# Altium schematic symbol library Bitcoiner_EB_Project_V1I1.SchLib: 70 symbols (part 1 of 3)
Pins are listed as number, name and electrical type; pins without a type are passive.

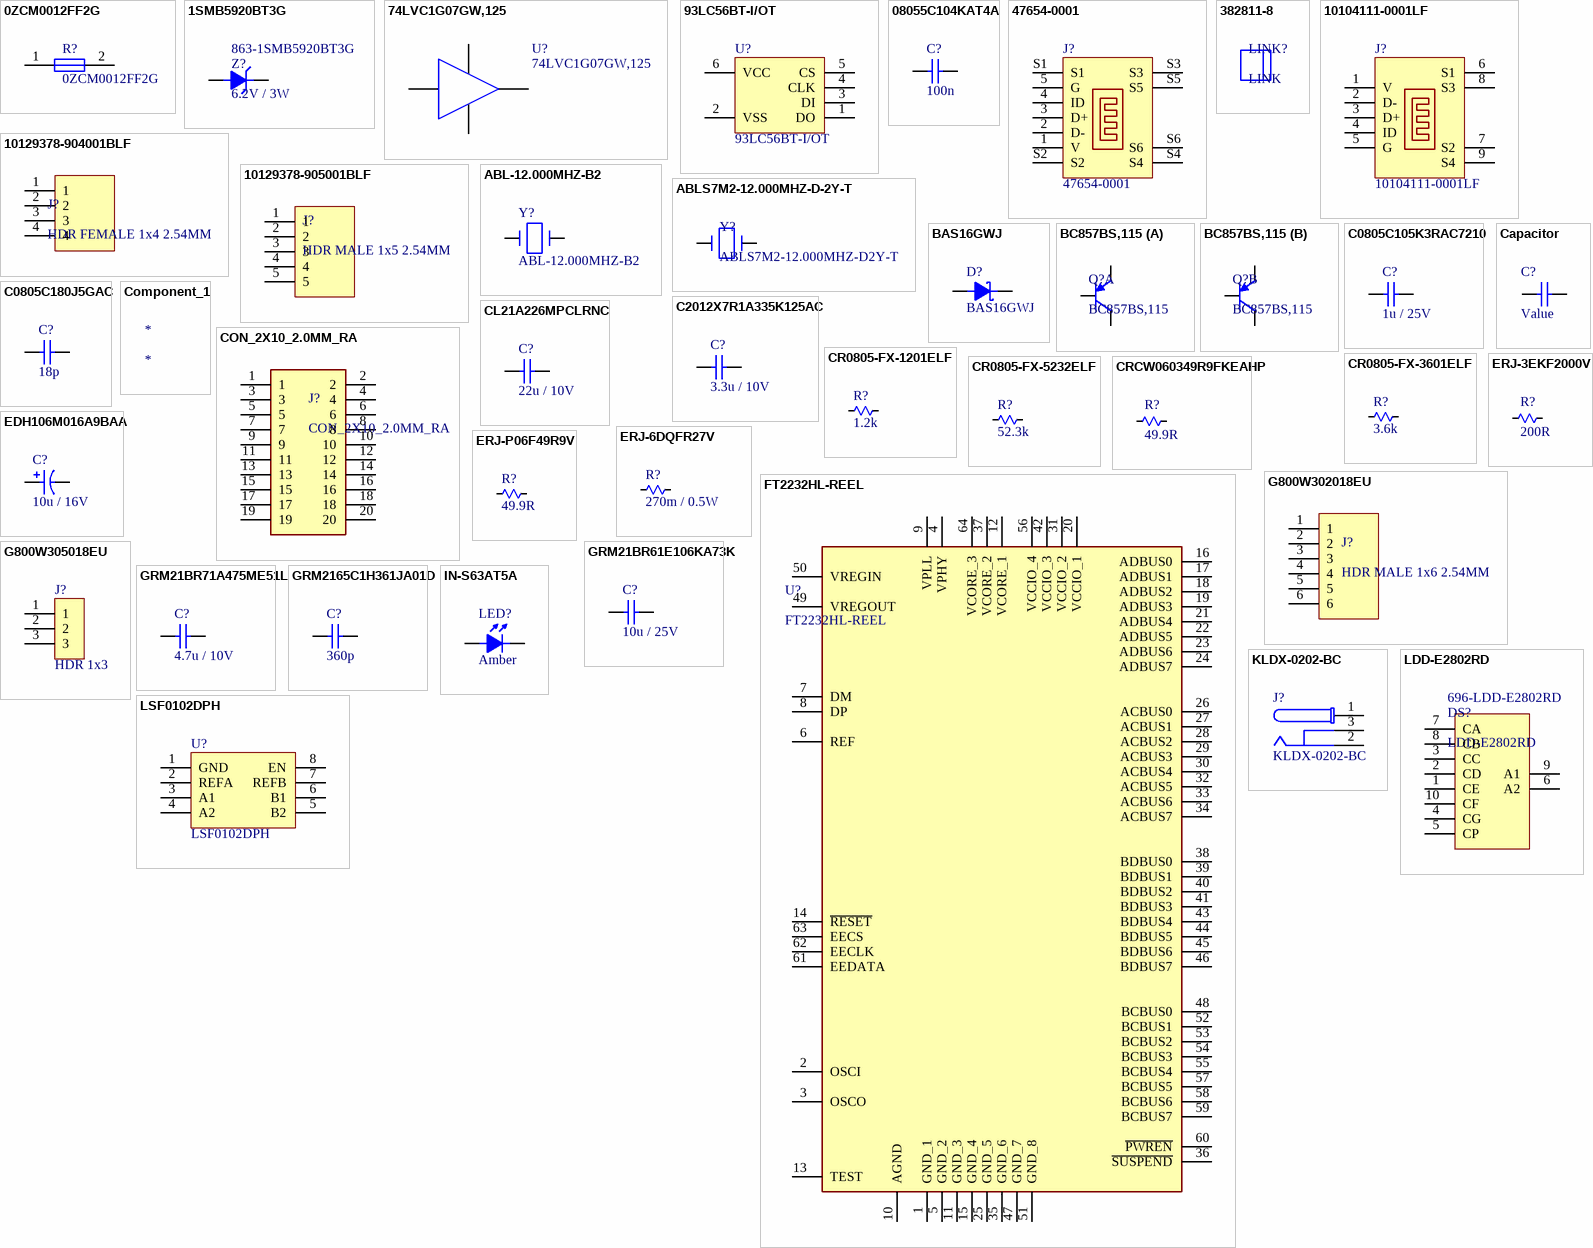
[diagram p0: symbols 0ZCM0012FF2G to LSF0102DPH]

## 0ZCM0012FF2G
designator R?
PTC RESET FUSE 9V 120MA 0603; Manufacturer: Bel; Max Current Rating: 40A; Trip Current: 300mA; Time to Trip: 0.1s; Supplier 1: Mouser; Manufacturer Part Number: 0ZCM0012FF2G; RoHS: Yes; Category: PTC Resettable Fuses; Stock 1: 3742; Pricing 1: 1=0.13000, 10=0.11800, 50=0.11800, 100=0.08400, 1000=0.06100, 10000=0.05000 (USD); Case/Package: 0603; Case Code (Metric): 1608; Case Code (Imperial): 0603; Package Quantity: 1; Packaging: Tape and Reel; Hold Current: 120mA; RoHS Compliant: Yes; ComponentLink1URL: https://datasheet.ciiva.com/18550/0zcm-18550763.pdf?src-supplier=Digi-Key; ComponentLink1Description: https://datasheet.ciiva.com/18550/0zcm-18550763.pdf?src-supplier=Digi-Key; ComponentLink2URL: https://datasheet.ciiva.com/18550/0zcm-18550764.pdf?src-supplier=Digi-Key; ComponentLink2Description: https://datasheet.ciiva.com/18550/0zcm-18550764.pdf?src-supplier=Digi-Key; ComponentLink3URL: https://datasheet.ciiva.com/18550/0zcm-18550765.pdf?src-supplier=Digi-Key; ComponentLink3Description: https://datasheet.ciiva.com/18550/0zcm-18550765.pdf?src-supplier=Digi-Key; Supplier Part Number 1: 530-0ZCM0012FF2G
footprint 0ZCM0012FF2G
pins: 1, 2

## 1SMB5920BT3G
designator Z?, comment 6.2V / 3W  Supplier Part Number 1: 863-1SMB5920BT3G
Diode Zener Single 6.2V 5% 550mW 2-Pin SMB T/R; Manufacturer: ON Semiconductor; Manufacturer Part Number: 1SMB5920BT3G; Impedance: 2R; Max Reverse Leakage Current: 5uA; Breakdown Voltage: 6.51V; Forward Voltage: 1.5V; Zener Current: 241mA; Test Current: 60.5mA; ESD Protection: Yes; Supplier 1: Mouser; RoHS: Yes; Category: Zener Diodes; Stock 1: 179; Pricing 1: 1=0.45000, 10=0.35300, 50=0.35300, 100=0.21200, 1000=0.13400, 10000=0.11700 (USD); Case/Package: SMB; Number of Pins: 2; Material: Plastic; Contact Plating: Tin,Matte; Min Operating Temperature: -65°C; Max Operating Temperature: 150°C; Packaging: Tape and Reel; Max Power Dissipation: 3W; Tolerance: 5%; Zener Voltage: 6.2V; Package Quantity: 1; Voltage Tolerance: 5%; Element Configuration: Single; Voltage Rating (DC): 6.2V; Power Rating: 3W; Power Dissipation: 550mW; Termination: SMD/SMT; Working Voltage: 6.2V; Max Reverse Current: 5uA; Length: 4.32mm; Width: 3.56mm; Height: 2.13mm; Radiation Hardening: No; Lead Free: Lead Free; Halogen Free: Halogen Free; RoHS Compliant: Yes; REACH SVHC: No SVHC; ComponentLink1URL: https://datasheet.ciiva.com/30513/1308357-30513968.pdf?src-supplier=Jameco; ComponentLink1Description: https://datasheet.ciiva.com/30513/1308357-30513968.pdf?src-supplier=Jameco; ComponentLink2URL: https://datasheet.ciiva.com/1182/1smb5913bt3-d-1182660.pdf?src-supplier=Element14; ComponentLink2Description: https://datasheet.ciiva.com/1182/1smb5913bt3-d-1182660.pdf?src-supplier=Element14; ComponentLink3URL: https://datasheet.ciiva.com/1205/1smb5913bt3-d-1205140.pdf?src-supplier=Farnell; ComponentLink3Description: https://datasheet.ciiva.com/1205/1smb5913bt3-d-1205140.pdf?src-supplier=Farnell; ComponentLink4URL: https://datasheet.ciiva.com/1205/1smb5913bt3-d-1205141.pdf?src-supplier=Farnell; ComponentLink4Description: https://datasheet.ciiva.com/1205/1smb5913bt3-d-1205141.pdf?src-supplier=Farnell; ComponentLink5URL: https://datasheet.ciiva.com/895/1smb5913bt3-d-895191.pdf?src-supplier=Digi-Key; ComponentLink5Description: https://datasheet.ciiva.com/895/1smb5913bt3-d-895191.pdf?src-supplier=Digi-Key; ComponentLink6URL: https://datasheet.ciiva.com/895/1smb5913bt3-d-895192.pdf?src-supplier=Digi-Key; ComponentLink6Description: https://datasheet.ciiva.com/895/1smb5913bt3-d-895192.pdf?src-supplier=Digi-Key; ComponentLink7URL: https://datasheet.ciiva.com/8345/1smb5913bt3-d-8345928.pdf?src-supplier=Avnet; ComponentLink7Description: https://datasheet.ciiva.com/8345/1smb5913bt3-d-8345928.pdf?src-supplier=Avnet; ComponentLink8URL: https://datasheet.ciiva.com/8346/1smb5913bt3-d-8346619.pdf?src-supplier=Avnet; ComponentLink8Description: https://datasheet.ciiva.com/8346/1smb5913bt3-d-8346619.pdf?src-supplier=Avnet; ComponentLink9URL: https://datasheet.ciiva.com/26092/1smb5913bt3-d-26092478.pdf?src-supplier=Avnet+Europe; ComponentLink9Description: https://datasheet.ciiva.com/26092/1smb5913bt3-d-26092478.pdf?src-supplier=Avnet+Europe; ComponentLink10URL: https://datasheet.ciiva.com/1182/1smb5913bt3-d-1182659.pdf?src-supplier=Element14; ComponentLink10Description: https://datasheet.ciiva.com/1182/1smb5913bt3-d-1182659.pdf?src-supplier=Element14; ComponentLink11URL: https://datasheet.ciiva.com/895/1smb5913bt3-d-895193.pdf?src-supplier=Digi-Key; ComponentLink11Description: https://datasheet.ciiva.com/895/1smb5913bt3-d-895193.pdf?src-supplier=Digi-Key; ComponentLink12URL: https://datasheet.ciiva.com/8026/1smb5913bt3-d-8026937.pdf?src-supplier=Element14; ComponentLink12Description: https://datasheet.ciiva.com/8026/1smb5913bt3-d-8026937.pdf?src-supplier=Element14; ComponentLink13URL: https://datasheet.ciiva.com/14560/70099466-14560474.pdf?src-supplier=Allied+Electronics; ComponentLink13Description: https://datasheet.ciiva.com/14560/70099466-14560474.pdf?src-supplier=Allied+Electronics; ComponentLink14URL: https://datasheet.ciiva.com/16202/1smb5913bt3-d-16202955.pdf?src-supplier=Future+Electronics; ComponentLink14Description: https://datasheet.ciiva.com/16202/1smb5913bt3-d-16202955.pdf?src-supplier=Future+Electronics; ComponentLink15URL: https://datasheet.ciiva.com/16472/1smb5913bt3-d-16472781.pdf?src-supplier=Avnet+Asia; ComponentLink15Description: https://datasheet.ciiva.com/16472/1smb5913bt3-d-16472781.pdf?src-supplier=Avnet+Asia
footprint 1SMB5913BT3
pins: 1 Cathode, 2 Anode

## 74LVC1G07GW,125
designator U?
NEXPERIA - 74LVC1G07GW,125 - BUFFER, NON-INVERTING, TSSOP-5; Supplier 1: Mouser; Manufacturer: Nexperia; Manufacturer Part Number: 74LVC1G07GW,125; RoHS: Yes; Category: Logic Gates; Stock 1: 3142; Pricing 1: 1=0.24000, 10=0.16400, 50=0.16400, 100=0.08100, 1000=0.04700, 10000=0.03600 (USD); RoHS Compliant: Yes; ComponentLink1URL: http://www.farnell.com/datasheets/2185287.pdf?src-supplier=Farnell; ComponentLink1Description: http://www.farnell.com/datasheets/2185287.pdf?src-supplier=Farnell; ComponentLink2URL: https://assets.nexperia.com/documents/data-sheet/74LVC1G07.pdf?src-supplier=Digi-Key; ComponentLink2Description: https://assets.nexperia.com/documents/data-sheet/74LVC1G07.pdf?src-supplier=Digi-Key; ComponentLink3URL: http://www.farnell.com/datasheets/2185287.pdf?src-supplier=Newark; ComponentLink3Description: http://www.farnell.com/datasheets/2185287.pdf?src-supplier=Newark; Supplier Part Number 1: 771-74LVC1G07GW-G
footprint SOT353-1
pins: 2, 3, 4, 5

## 93LC56BT-I/OT
designator U?
MICROCHIP - 93LC56BT-I/OT. - 2K, 128 X 16, SERIAL EE, IND ROHS COMPLIANT: YES; Density: 2Kb; Max Supply Voltage: 5.5V; Min Supply Voltage: 2.5V; Access Time: 250ns; Frequency: 2MHz; Nominal Supply Current: 2mA; Memory Type: EEPROM; Supplier 1: Mouser; Manufacturer: Microchip; Manufacturer Part Number: 93LC56BT-I/OT; RoHS: No; Category: EEPROM; Stock 1: 38253; Pricing 1: 1=0.25000, 10=0.24200, 50=0.23100, 100=0.22100, 1000=0.22100, 10000=0.22100 (USD); Mount: Surface Mount; Case/Package: SOT-23; Number of Pins: 6; Contact Plating: Tin,Matte; Min Operating Temperature: -40°C; Max Operating Temperature: 85°C; Packaging: Tape and Reel; Package Quantity: 3000; Interface: Serial; Memory Size: 2Kb; Max Frequency: 2MHz; Length: 3.1mm; Width: 1.8mm; Height: 1.3mm; Radiation Hardening: No; REACH SVHC: No SVHC; Lead Free: Lead Free; ComponentLink1URL: https://datasheet.ciiva.com/48496/jp013939-48496476.pdf?src-supplier=Avnet; ComponentLink1Description: https://datasheet.ciiva.com/48496/jp013939-48496476.pdf?src-supplier=Avnet; ComponentLink2URL: https://datasheet.ciiva.com/16216/filehandler-aspxddocname-en013939-16216574.pdf?src-supplier=Future+Electronics; ComponentLink2Description: https://datasheet.ciiva.com/16216/filehandler-aspxddocname-en013939-16216574.pdf?src-supplier=Future+Electronics; ComponentLink3URL: https://datasheet.ciiva.com/3185/jp013939-3185519.pdf?src-supplier=Avnet; ComponentLink3Description: https://datasheet.ciiva.com/3185/jp013939-3185519.pdf?src-supplier=Avnet; ComponentLink4URL: https://datasheet.ciiva.com/16622/jp013939-16622127.pdf?src-supplier=Avnet+Europe; ComponentLink4Description: https://datasheet.ciiva.com/16622/jp013939-16622127.pdf?src-supplier=Avnet+Europe; Supplier Part Number 1: 579-93LC56BT-I/OT
footprint SOT-23-6
pins: 1 DO, 2 VSS, 3 DI, 4 CLK, 5 CS, 6 VCC

## 08055C104KAT4A
designator C?, comment 100n
AVX - 08055C104KAT4A - Multilayer Ceramic Capacitor, 0.1 F, 10%, X7R, 50 V, 0805 [2012 Metric] RoHS Compliant: Yes; Manufacturer: Kyocera AVX; Capacitance: 100nF; Voltage Rating: 50V; Dissipation Factor: 2.5%; Supplier 1: Mouser; Manufacturer Part Number: 08055C104KAT4A; RoHS: Yes; Category: Ceramic Capacitors; Stock 1: 466031; Pricing 1: 1=0.10000, 10=0.04000, 50=0.04000, 100=0.03300, 1000=0.01900, 10000=0.01500 (USD); Mount: Surface Mount; Case/Package: 0805; Number of Pins: 2; Case Code (Imperial): 0805; Case Code (Metric): 2012; Dielectric Material: Ceramic; Min Operating Temperature: -55°C; Max Operating Temperature: 125°C; Tolerance: 10%; Dielectric: X7R; Packaging: Tape and Reel; Voltage Rating (DC): 50V; Package Quantity: 15000; Termination: SMD/SMT; Voltage: 50V; Construction: Flat; Length: 2.01mm; Width: 1.25mm; Height: 0.94mm; Depth: 1.25mm; Radiation Hardening: No; REACH SVHC: No SVHC; Lead Free: Lead Free; RoHS Compliant: Yes; ComponentLink1URL: https://datasheet.ciiva.com/2988/cx7r-2988016.pdf?src-supplier=Avnet; ComponentLink1Description: https://datasheet.ciiva.com/2988/cx7r-2988016.pdf?src-supplier=Avnet; ComponentLink2URL: https://datasheet.ciiva.com/28613/1679506-28613114.pdf?src-supplier=Element14; ComponentLink2Description: https://datasheet.ciiva.com/28613/1679506-28613114.pdf?src-supplier=Element14; ComponentLink3URL: https://datasheet.ciiva.com/5423/cx7r-218113-5423437.pdf?src-supplier=Mouser; ComponentLink3Description: https://datasheet.ciiva.com/5423/cx7r-218113-5423437.pdf?src-supplier=Mouser; ComponentLink4URL: https://datasheet.ciiva.com/16222/cx7r-16222253.pdf?src-supplier=Future+Electronics; ComponentLink4Description: https://datasheet.ciiva.com/16222/cx7r-16222253.pdf?src-supplier=Future+Electronics; ComponentLink5URL: https://datasheet.ciiva.com/22676/1679506-22676605.pdf?src-supplier=Element14; ComponentLink5Description: https://datasheet.ciiva.com/22676/1679506-22676605.pdf?src-supplier=Element14; ComponentLink6URL: https://datasheet.ciiva.com/2988/cx7r-2988015.pdf?src-supplier=Avnet; ComponentLink6Description: https://datasheet.ciiva.com/2988/cx7r-2988015.pdf?src-supplier=Avnet; Supplier Part Number 1: 581-08055C104KAT4A
footprint C0805
pins: 1, 2

## 47654-0001
designator J?
Conn Micro USB Type AB RCP 5 POS 0.65mm Solder RA SMD 5 Terminal 1 Port Embossed T/R; Manufacturer: Molex; Number of Terminals/Pins: 5; Max Voltage Rating (AC): 100V; Gender: Male; Connector Type: USB,Receptacle; Number of Ports: 1; Current Rating: 1.8A; Voltage Rating (AC): 30V; Number of Circuits: 13; USB Standard: USB 2.0; Glow Wire Compliant: Non-compliant; Supplier 1: Mouser; Manufacturer Part Number: 47654-0001; RoHS: Yes; Category: Headers and Wire Housings; Stock 1: 1931; Pricing 1: 1=0.75000, 10=0.61800, 50=0.61800, 100=0.51600, 1000=0.38700, 10000=0.33400 (USD); Mount: Surface Mount; Contact Material: Copper Alloy; Contact Plating: Gold; Housing Material: Thermoplastic; Color: Black; Min Operating Temperature: -20°C; Max Operating Temperature: 85°C; Packaging: Tape and Reel; Package Quantity: 7500; Number of Contacts: 5; Termination: Solder; Orientation: Right Angle; Number of Positions: 5; Number of Rows: 1; Series: 47654; Length: 10.13mm; Pitch: 0.65mm; Depth: 6.8mm; REACH SVHC: Unknown; RoHS Compliant: Yes; ComponentLink1URL: https://datasheet.ciiva.com/16143/molexconnectorpartnumber-47654-0001-16143187.pdf?src-supplier=Onlinecomponents.com; ComponentLink1Description: https://datasheet.ciiva.com/16143/molexconnectorpartnumber-47654-0001-16143187.pdf?src-supplier=Onlinecomponents.com; ComponentLink2URL: https://datasheet.ciiva.com/8015/707934-8015291.pdf?src-supplier=Element14; ComponentLink2Description: https://datasheet.ciiva.com/8015/707934-8015291.pdf?src-supplier=Element14; ComponentLink3URL: https://datasheet.ciiva.com/30150/molexconnectorpartnumber-47654-0001-30150780.pdf?src-supplier=Onlinecomponents.com; ComponentLink3Description: https://datasheet.ciiva.com/30150/molexconnectorpartnumber-47654-0001-30150780.pdf?src-supplier=Onlinecomponents.com; Supplier Part Number 1: 538-47654-0001
footprint MOLEX_47590-0001
pins: 1 V, 2 D-, 3 D+, 4 ID, 5 G, S1, S2, S3, S4, S5, S6

## 382811-8
designator LINK?, comment LINK  (mechanical)
CONN SHUNT 2POS OPEN 2.54MM; Manufacturer: TE Connectivity; Manufacturer Part Number: 382811-8; Number of Contacts: 2; Insulation Resistance: 1GR; Contact Current Rating: 3A; Plating Thickness: 0.127um; Approvals: UL,CSA; Supplier 1: Mouser; RoHS: Yes; Category: Board to Board Connectors; Stock 1: 1961; Pricing 1: 1=0.20000, 10=0.16400, 50=0.16400, 100=0.12500, 500=0.11300, 1000=0.09200, 2500=0.08400, 5000=0.08100, 10000=0.07300, 25000=0.06700 (USD); Housing Color: Black; Contact Plating: Gold; Housing Material: Polyester; Contact Material: Bronze; Color: Black; Min Operating Temperature: -65°C; Max Operating Temperature: 105°C; Number of Rows: 1; Packaging: Box; Number of Positions: 2; Orientation: Straight; Package Quantity: 1500; Current Rating: 3A; Contact Gender: Female; Length: 5.08mm; Height: 6.35mm; Depth: 2.54mm; Pitch: 2.54mm; Radiation Hardening: No; Lead Free: Lead Free; Flammability Rating: UL94 V-0; ELV: Compliant; REACH SVHC: Unknown; ComponentLink1URL: https://datasheet.ciiva.com/25616/0900766b810caf26-25616808.pdf?src-supplier=RSComponents; ComponentLink1Description: https://datasheet.ciiva.com/25616/0900766b810caf26-25616808.pdf?src-supplier=RSComponents; ComponentLink2URL: https://datasheet.ciiva.com/767/eng-cd-382811-l-767846.pdf?src-supplier=Digi-Key; ComponentLink2Description: https://datasheet.ciiva.com/767/eng-cd-382811-l-767846.pdf?src-supplier=Digi-Key; ComponentLink3URL: https://datasheet.ciiva.com/16547/eng-cs-1307819-section-6-7and8-0808-16547046.pdf?src-supplier=Avnet+Europe; ComponentLink3Description: https://datasheet.ciiva.com/16547/eng-cs-1307819-section-6-7and8-0808-16547046.pdf?src-supplier=Avnet+Europe; ComponentLink4URL: https://datasheet.ciiva.com/1412/eng-cs-1307819-section-6-7and8-0808-1412631.pdf?src-supplier=Element14; ComponentLink4Description: https://datasheet.ciiva.com/1412/eng-cs-1307819-section-6-7and8-0808-1412631.pdf?src-supplier=Element14; ComponentLink5URL: https://datasheet.ciiva.com/14640/70083050-14640423.pdf?src-supplier=Allied+Electronics; ComponentLink5Description: https://datasheet.ciiva.com/14640/70083050-14640423.pdf?src-supplier=Allied+Electronics; ComponentLink6URL: https://datasheet.ciiva.com/16469/eng-cs-1307819-section-6-7and8-0808-16469032.pdf?src-supplier=Avnet+Asia; ComponentLink6Description: https://datasheet.ciiva.com/16469/eng-cs-1307819-section-6-7and8-0808-16469032.pdf?src-supplier=Avnet+Asia; ComponentLink7URL: https://datasheet.ciiva.com/3120/eng-cs-1307819-section-6-7and8-0808-3120187.pdf?src-supplier=Avnet; ComponentLink7Description: https://datasheet.ciiva.com/3120/eng-cs-1307819-section-6-7and8-0808-3120187.pdf?src-supplier=Avnet; ComponentLink8URL: https://datasheet.ciiva.com/30253/eng-cs-1307819-section-6-7and8-0808-30253247.pdf?src-supplier=Onlinecomponents.com; ComponentLink8Description: https://datasheet.ciiva.com/30253/eng-cs-1307819-section-6-7and8-0808-30253247.pdf?src-supplier=Onlinecomponents.com; Supplier Part Number 1: 571-3828118

## 10104111-0001LF
designator J?
Conn USB Type A/B RCP 5 POS 0.65mm Solder RA SMD 5 Terminal 1 Port T/R; Manufacturer: AMPHENOL ICC (FCI); Number of Contacts: 5; Gender: Receptacle; Number of Ports: 1; Current Rating: 1.8A; Mating Cycles: 10000; Shielding: Shielded; Supplier 1: Mouser; Manufacturer Part Number: 10104111-0001LF; RoHS: No; Stock 1: 372; Pricing 1: 1=0.78000, 10=0.61900, 50=0.61900, 100=0.53800, 1000=0.43000, 10000=0.38500 (USD); Mount: Surface Mount; Contact Plating: Gold; Insulation Color: Grey; Min Operating Temperature: -30°C; Max Operating Temperature: 80°C; Connector Type: USB; Packaging: Cut Tape; Termination: Solder; Flammability Rating: UL94 V-0; ComponentLink1URL: http://www.farnell.com/datasheets/2366786.pdf?src-supplier=Farnell; ComponentLink1Description: http://www.farnell.com/datasheets/2366786.pdf?src-supplier=Farnell; ComponentLink2URL: https://cdn.amphenol-icc.com/media/wysiwyg/files/drawing/10104111.pdf?src-supplier=Digi-Key; ComponentLink2Description: https://cdn.amphenol-icc.com/media/wysiwyg/files/drawing/10104111.pdf?src-supplier=Digi-Key; ComponentLink3URL: http://www.farnell.com/datasheets/2366786.pdf?src-supplier=Newark; ComponentLink3Description: http://www.farnell.com/datasheets/2366786.pdf?src-supplier=Newark; ComponentLink4URL: http://www.farnell.com/datasheets/2366786.pdf?src-supplier=Element14; ComponentLink4Description: http://www.farnell.com/datasheets/2366786.pdf?src-supplier=Element14; Supplier Part Number 1: 649-10104111-0001LF
footprint 101041110001LF
pins: 1 V, 2 D-, 3 D+, 4 ID, 5 G, 6 S1, 7 S2, 8 S3, 9 S4

## 10129378-904001BLF
designator J?, comment HDR FEMALE 1x4 2.54MM
Manufacturer: Amphenol ICC; Manufacturer Part Number: 10129378-904001BLF; Supplier 1: Mouser; RoHS: No; Stock 1: 6059; Pricing 1: 1=0.14000, 10=0.07100, 50=0.07100, 100=0.06700, 1000=0.05900, 10000=0.04900 (USD); Supplier Part Number 1: 649-1012937890401BLF
footprint HDR_Female_1x4_2.54mm
pins: 1, 2, 3, 4

## 10129378-905001BLF
designator J?, comment HDR MALE 1x5 2.54MM
HDR FEMALE 1x5 2.54MM; Manufacturer: Amphenol ICC; Manufacturer Part Number: 10129378-905001BLF; Supplier 1: Mouser; RoHS: No; Stock 1: 4420; Pricing 1: 1=0.18000, 10=0.08900, 50=0.08900, 100=0.08500, 1000=0.07400, 10000=0.06200 (USD); Supplier Part Number 1: 649-1012937890501BLF
footprint Hdr_Female_1x5_2.54mm
pins: 1, 2, 3, 4, 5

## ABL-12.000MHZ-B2
designator Y?
CRYSTAL, 12MHZ, 18PF, HC-49US; Product Range:ABL Series; Frequency Nom:12MHz; Frequency Stability + / -:50ppm; Frequency Tolerance + / -:20ppm; Crystal Case:Through Hole, 11.5mm x 5mm; Load Capacitance:18pF; ESR:50ohm; No. of Pins:2 ;RoHS Compliant: Yes; Manufacturer: Abracon; Frequency Stability: 50ppm; Frequency Tolerance: 20ppm; ESR (Equivalent Series Resistance): 50R; Supplier 1: Mouser; Manufacturer Part Number: ABL-12.000MHZ-B2; RoHS: Yes; Category: Crystals; Stock 1: 1093; Pricing 1: 1=0.32000, 10=0.26400, 50=0.23800, 100=0.21200, 1000=0.17600, 10000=0.17600 (USD); Mount: Through Hole; Number of Pins: 2; Min Operating Temperature: -20°C; Max Operating Temperature: 70°C; Termination: Radial; Load Capacitance: 18pF; Frequency: 12MHz; Package Quantity: 1000; Packaging: Bulk; Tolerance: 20ppm; Series Resistance: 50R; Length: 0.453inch; Width: 0.197inch; Height: 0.138inch; Radiation Hardening: No; REACH SVHC: No SVHC; Lead Free: Lead Free; ComponentLink1URL: https://datasheet.ciiva.com/7998/1359171-7998394.pdf?src-supplier=Element14; ComponentLink1Description: https://datasheet.ciiva.com/7998/1359171-7998394.pdf?src-supplier=Element14; ComponentLink2URL: https://datasheet.ciiva.com/3175/abl-3175223.pdf?src-supplier=Avnet; ComponentLink2Description: https://datasheet.ciiva.com/3175/abl-3175223.pdf?src-supplier=Avnet; ComponentLink3URL: https://datasheet.ciiva.com/862/abl-862054.pdf?src-supplier=Digi-Key; ComponentLink3Description: https://datasheet.ciiva.com/862/abl-862054.pdf?src-supplier=Digi-Key; Supplier Part Number 1: 815-ABL-12-B2
footprint ABL-12.000MHZ-B2
pins: 1, 2

## ABLS7M2-12.000MHZ-D-2Y-T
designator Y?, comment ABLS7M2-12.000MHZ-D2Y-T
CRYSTAL 12.0000MHZ 18PF SMD; Manufacturer: Abracon; Manufacturer Part Number: ABLS7M2-12.000MHZ-D-2Y-T; Frequency Tolerance: 20ppm; Frequency: 12MHz; ESR (Equivalent Series Resistance): 60R; Frequency Stability: 30ppm; Supplier 1: Mouser; RoHS: Yes; Category: Crystals; Stock 1: 6312; Pricing 1: 1=0.37000, 10=0.31100, 50=0.27900, 100=0.24800, 1000=0.18900, 10000=0.18900 (USD); Mount: Surface Mount; Case/Package: SMD/SMT; Min Operating Temperature: -40°C; Max Operating Temperature: 85°C; Package Quantity: 3000; Tolerance: 20ppm; Packaging: Tape and Reel; Load Capacitance: 18pF; Termination: SMD/SMT; Length: 0.276inch; Width: 0.161inch; Height: 0.079inch; Lead Free: Lead Free; REACH SVHC: Yes; ComponentLink1URL: http://www.farnell.com/datasheets/2608288.pdf?src-supplier=Farnell; ComponentLink1Description: http://www.farnell.com/datasheets/2608288.pdf?src-supplier=Farnell; ComponentLink2URL: http://www.mouser.com/ds/2/3/ABLS7M2-1003668.pdf?src-supplier=Mouser; ComponentLink2Description: http://www.mouser.com/ds/2/3/ABLS7M2-1003668.pdf?src-supplier=Mouser; ComponentLink3URL: http://www.farnell.com/datasheets/1883657.pdf?src-supplier=Element14; ComponentLink3Description: http://www.farnell.com/datasheets/1883657.pdf?src-supplier=Element14; ComponentLink4URL: http://abracon.com/Resonators/ABLS7M2.pdf?src-supplier=Digi-Key; ComponentLink4Description: http://abracon.com/Resonators/ABLS7M2.pdf?src-supplier=Digi-Key; ComponentLink5URL: https://abracon.com/Resonators/ABLS7M2.pdf?src-supplier=Digi-Key; ComponentLink5Description: https://abracon.com/Resonators/ABLS7M2.pdf?src-supplier=Digi-Key; Supplier Part Number 1: 815-ABLS7M212MHZD2YT
footprint ABLS7M2-12.000MHZ-D2Y-T
pins: 1, 2

## BAS16GWJ
designator D?
High-speed switching diode BAS16GW/SOD2/REEL 13 Q1/T1 S"; Manufacturer: Nexperia; Supplier 1: Mouser; Manufacturer Part Number: BAS16GWJ; RoHS: Yes; Category: Rectifier Diodes; Stock 1: 2099; Pricing 1: 1=0.11000, 10=0.07700, 50=0.07700, 100=0.04100, 1000=0.01900, 10000=0.01200 (USD); ComponentLink1URL: https://assets.nexperia.com/documents/data-sheet/BAS16GW.pdf?src-supplier=Digi-Key; ComponentLink1Description: https://assets.nexperia.com/documents/data-sheet/BAS16GW.pdf?src-supplier=Digi-Key; Supplier Part Number 1: 841-BAS16GWJ
footprint SOD123
pins: 1 Cathode, 2 Anode

## BC857BS,115
designator Q?
NEXPERIA - BC857BS,115 - TRANSISTOR, DUAL, PNP, SC-88; Supplier 1: Mouser; Manufacturer: Nexperia; Manufacturer Part Number: BC857BS,115; RoHS: Yes; Category: BJTs; Stock 1: 20332; Pricing 1: 1=0.19000, 10=0.12200, 50=0.12200, 100=0.06800, 1000=0.03800, 10000=0.02500 (USD); RoHS Compliant: Yes; ComponentLink1URL: http://www.farnell.com/datasheets/708560.pdf?src-supplier=Farnell; ComponentLink1Description: http://www.farnell.com/datasheets/708560.pdf?src-supplier=Farnell; ComponentLink2URL: https://assets.nexperia.com/documents/data-sheet/BC857BS.pdf?src-supplier=Digi-Key; ComponentLink2Description: https://assets.nexperia.com/documents/data-sheet/BC857BS.pdf?src-supplier=Digi-Key; Supplier Part Number 1: 771-BC857BS-T/R
footprint SOT363
part A pins: 1, 2, 6
part B pins: 3, 4, 5 2

## C0805C105K3RAC7210
designator C?, comment 1u / 25V
Cap Ceramic 1uF 25V X7R 10% SMD 0805 125C Plastic T/R; Manufacturer: KEMET; Manufacturer Part Number: C0805C105K3RAC7210; Supplier 1: Mouser; RoHS: Yes; Category: Ceramic Capacitors; Stock 1: 18487; Pricing 1: 1=0.14000, 10=0.05600, 50=0.05600, 100=0.04600, 1000=0.02700, 10000=0.02200 (USD); Mount: Surface Mount; Case/Package: 0805; Dielectric Material: Ceramic; Min Operating Temperature: -55°C; Max Operating Temperature: 125°C; Capacitance: 1uF; Tolerance: 10%; Dielectric: X7R; Packaging: Tape and Reel; Voltage Rating (DC): 25V; Construction: Flat; Length: 2mm; Height: 1.25mm; Depth: 1.25mm; Radiation Hardening: No; RoHS Compliant: Yes; ComponentLink1URL: https://datasheet.ciiva.com/16623/datasheetpn-c0805c105k3rac7210-16623618.pdf?src-supplier=Avnet+Europe; ComponentLink1Description: https://datasheet.ciiva.com/16623/datasheetpn-c0805c105k3rac7210-16623618.pdf?src-supplier=Avnet+Europe; ComponentLink2URL: https://datasheet.ciiva.com/26847/getdatasheetpartid-385653-26847803.pdf?src-supplier=Verical; ComponentLink2Description: https://datasheet.ciiva.com/26847/getdatasheetpartid-385653-26847803.pdf?src-supplier=Verical; Supplier Part Number 1: 80-C0805C105K3R7210
footprint C0805
pins: 1, 2

## C0805C180J5GAC
designator C?, comment 18p
Cap Ceramic 18pF 50V C0G 5% Pad SMD 0805 125°C Extreme Low ESR Bag; Manufacturer: KEMET; Manufacturer Part Number: C0805C180J5GAC; Supplier 1: Mouser; RoHS: Yes; Category: Ceramic Capacitors; Stock 1: 13285; Pricing 1: 1=0.11000, 10=0.04800, 50=0.04800, 100=0.03400, 1000=0.02300, 10000=0.01600 (USD); Mount: Surface Mount; Case/Package: 0805; Number of Pins: 2; Dielectric Material: Ceramic; Case Code (Imperial): 0805; Case Code (Metric): 2012; Min Operating Temperature: -55°C; Max Operating Temperature: 125°C; Capacitance: 18pF; Tolerance: 5%; Dielectric: C0G; Voltage Rating (DC): 50V; Packaging: Tape and Reel; Termination: SMD/SMT; Package Quantity: 4000; Series: C0805C; Construction: Flat; Length: 2mm; Width: 1.2mm; Height: 0.78mm; Depth: 1.25mm; Radiation Hardening: No; Lead Free: Lead Free; RoHS Compliant: Yes; ComponentLink1URL: https://datasheet.ciiva.com/11651/kem-c1003-c0g-smd-11651038.pdf?src-supplier=Avnet; ComponentLink1Description: https://datasheet.ciiva.com/11651/kem-c1003-c0g-smd-11651038.pdf?src-supplier=Avnet; Supplier Part Number 1: 80-C0805C180J5GAC
footprint C0805
pins: 1, 2

## C2012X7R1A335K125AC
designator C?, comment 3.3u / 10V
CAP CER 3.3UF 10V X7R 0805; Manufacturer: TDK; Manufacturer Part Number: C2012X7R1A335K125AC; Dielectric Material: Ceramic; Tolerance: 10%; Supplier 1: Mouser; RoHS: Yes; Category: Ceramic Capacitors; Stock 1: 724; Pricing 1: 1=0.24000, 10=0.11000, 50=0.11000, 100=0.08700, 1000=0.05800, 10000=0.05000 (USD); Mount: Surface Mount; Case/Package: 0805; Number of Pins: 2; Case Code (Metric): 2012; Case Code (Imperial): 0805; Weight: 0.000194oz; Min Operating Temperature: -55°C; Max Operating Temperature: 125°C; Voltage Rating: 10V; Packaging: Tape and Reel; Capacitance: 3.3uF; Voltage Rating (DC): 10V; Package Quantity: 2000; Dielectric: X7R; Termination: SMD/SMT; Resistor Type: Ceramic; Series: C; Length: 2mm; Width: 0.049inch; Height: 1.25mm; Thickness: 0.057inch; Depth: 1.25mm; REACH SVHC: No SVHC; Lead Free: Lead Free; RoHS Compliant: Yes; ComponentLink1URL: https://datasheet.ciiva.com/24217/c2012x7r1a335k125ac-264927-24217383.pdf?src-supplier=Mouser; ComponentLink1Description: https://datasheet.ciiva.com/24217/c2012x7r1a335k125ac-264927-24217383.pdf?src-supplier=Mouser; ComponentLink2URL: https://datasheet.ciiva.com/23803/1796654-23803031.pdf?src-supplier=Newark; ComponentLink2Description: https://datasheet.ciiva.com/23803/1796654-23803031.pdf?src-supplier=Newark; ComponentLink3URL: https://datasheet.ciiva.com/28673/mlcc-commercial-general-en-28673548.pdf?src-supplier=Element14; ComponentLink3Description: https://datasheet.ciiva.com/28673/mlcc-commercial-general-en-28673548.pdf?src-supplier=Element14; ComponentLink4URL: https://datasheet.ciiva.com/6290/tdkmlcccaprange-6290445.pdf?src-supplier=Digi-Key; ComponentLink4Description: https://datasheet.ciiva.com/6290/tdkmlcccaprange-6290445.pdf?src-supplier=Digi-Key; ComponentLink5URL: https://datasheet.ciiva.com/22718/1796654-22718029.pdf?src-supplier=Element14; ComponentLink5Description: https://datasheet.ciiva.com/22718/1796654-22718029.pdf?src-supplier=Element14; ComponentLink6URL: https://datasheet.ciiva.com/28451/1796654-28451789.pdf?src-supplier=Element14; ComponentLink6Description: https://datasheet.ciiva.com/28451/1796654-28451789.pdf?src-supplier=Element14; ComponentLink7URL: https://datasheet.ciiva.com/6290/tdkmlcccaprange-6290447.pdf?src-supplier=Digi-Key; ComponentLink7Description: https://datasheet.ciiva.com/6290/tdkmlcccaprange-6290447.pdf?src-supplier=Digi-Key; Supplier Part Number 1: 810-C2012X7R1A335K
footprint C0805
pins: 1, 2

## Capacitor
designator C?, comment Value
Capacitor
pins: 1, 2

## CL21A226MPCLRNC
designator C?, comment 22u / 10V
Cap Ceramic 22uF 10V X5R 20% SMD 0805 85C Cardboard T/R; Manufacturer: Samsung; Manufacturer Part Number: CL21A226MPCLRNC; Supplier 1: Mouser; RoHS: Yes; Category: Ceramic Capacitors; Stock 1: 45867; Pricing 1: 1=0.26000, 10=0.11700, 50=0.11700, 100=0.10000, 1000=0.06200, 10000=0.05400 (USD); Mount: Surface Mount; Case/Package: 0805; Case Code (Metric): 2012; Case Code (Imperial): 0805; Material: Ceramic; Contact Plating: Tin; Min Operating Temperature: -55°C; Max Operating Temperature: 85°C; Capacitance: 22uF; Tolerance: 20%; Dielectric: X5R; Packaging: Tape and Reel; Voltage Rating: 10V; Length: 2mm; Width: 0.049inch; Height: 0.85mm; Depth: 1.25mm; Thickness: 0.037inch; Radiation Hardening: No; ComponentLink1URL: https://datasheet.ciiva.com/15195/getdatasheetpartid-353187-15195862.pdf?src-supplier=Verical; ComponentLink1Description: https://datasheet.ciiva.com/15195/getdatasheetpartid-353187-15195862.pdf?src-supplier=Verical; ComponentLink2URL: https://datasheet.ciiva.com/25711/cl21a226mpclrnc-25711362.pdf?src-supplier=Digi-Key; ComponentLink2Description: https://datasheet.ciiva.com/25711/cl21a226mpclrnc-25711362.pdf?src-supplier=Digi-Key; ComponentLink3URL: https://datasheet.ciiva.com/29199/454635-da-01-en-vs-kondensator-0805-29199617.pdf?src-supplier=Conrad; ComponentLink3Description: https://datasheet.ciiva.com/29199/454635-da-01-en-vs-kondensator-0805-29199617.pdf?src-supplier=Conrad; ComponentLink4URL: https://datasheet.ciiva.com/16428/cl05b104kq5nnnc-16428876.pdf?src-supplier=Future+Electronics; ComponentLink4Description: https://datasheet.ciiva.com/16428/cl05b104kq5nnnc-16428876.pdf?src-supplier=Future+Electronics; Supplier Part Number 1: 187-CL21A226MPCLRNC
footprint C0805
pins: 1, 2

## Component_1
designator *

## CON_2X10_2.0MM_RA
designator J?
Supplier: Aliexpress
footprint CON_2X10_2.0MM_RA
pins: 1, 2, 3, 4, 5, 6, 7, 8, 9, 10, 11, 12, 13, 14, 15, 16, 17, 18, 19, 20

## CR0805-FX-1201ELF
designator R?, comment 1.2k
Res Thick Film 0805 1.2K Ohm 1% 0.125W(1/8W) ±100ppm/C Molded SMD Paper Tape on Plastic Reel; Manufacturer: Bourns; Manufacturer Part Number: CR0805-FX-1201ELF; Resistance: 1.2kR; Temperature Coefficient: 100ppm/°C; Power Rating: 125mW; Voltage Rating: 150V; Supplier 1: Mouser; RoHS: Yes; Category: Chip SMD Resistors; Stock 1: 39699; Pricing 1: 1=0.10000, 10=0.04400, 50=0.04400, 100=0.01800, 1000=0.00900, 10000=0.00600 (USD); Mount: Surface Mount; Case/Package: 0805; Contact Plating: Tin; Case Code (Metric): 2012; Case Code (Imperial): 0805; Min Operating Temperature: -55°C; Max Operating Temperature: 155°C; Tolerance: 1%; Resistor Type: Thick Film; Package Quantity: 5000; Packaging: Tape and Reel; Number of Terminations: 2; Termination: SMD/SMT; Max Power Dissipation: 125mW; Features: Moisture Resistant; Series: CR0805; Construction: Rectangular; Length: 2mm; Width: 0.049inch; Height: 0.024inch; Depth: 1.25mm; Thickness: 508um; Radiation Hardening: No; Military Standard: Not; RoHS Compliant: Yes; ComponentLink1URL: https://datasheet.ciiva.com/9123/chpreztr-9123541.pdf?src-supplier=Avnet; ComponentLink1Description: https://datasheet.ciiva.com/9123/chpreztr-9123541.pdf?src-supplier=Avnet; ComponentLink2URL: https://datasheet.ciiva.com/5581/chpreztr-5581383.pdf?src-supplier=Mouser; ComponentLink2Description: https://datasheet.ciiva.com/5581/chpreztr-5581383.pdf?src-supplier=Mouser; ComponentLink3URL: https://datasheet.ciiva.com/16926/chpreztr-16926199.pdf?src-supplier=Avnet+Europe; ComponentLink3Description: https://datasheet.ciiva.com/16926/chpreztr-16926199.pdf?src-supplier=Avnet+Europe; Supplier Part Number 1: 652-CR0805FX-1201ELF
footprint R0805
pins: 1, 2

## CR0805-FX-3601ELF
designator R?, comment 3.6k
Thick Film Resistors 3.6K 1%; Manufacturer: Bourns; Manufacturer Part Number: CR0805-FX-3601ELF; Resistance: 3.6kR; Power Rating: 125mW; Voltage Rating: 150V; Temperature Coefficient: 100ppm/°C; Supplier 1: Mouser; RoHS: Yes; Category: Chip SMD Resistors; Stock 1: 25012; Pricing 1: 1=0.10000, 10=0.02400, 50=0.02400, 100=0.01400, 1000=0.00800, 10000=0.00400 (USD); Mount: Surface Mount; Case/Package: 0805; Case Code (Imperial): 0805; Case Code (Metric): 2012; Contact Plating: Tin; Min Operating Temperature: -55°C; Max Operating Temperature: 155°C; Packaging: Tape and Reel; Tolerance: 1%; Package Quantity: 5000; Resistor Type: Thick Film; Termination: SMD/SMT; Number of Terminations: 2; Max Power Dissipation: 125mW; Features: Moisture Resistant; Series: CR0805; Construction: Rectangular; Length: 2mm; Width: 1.25mm; Height: 0.024inch; Depth: 1.25mm; Thickness: 508um; Radiation Hardening: No; Military Standard: Not; RoHS Compliant: Yes; ComponentLink1URL: https://datasheet.ciiva.com/5547/chpreztr-5547432.pdf?src-supplier=Mouser; ComponentLink1Description: https://datasheet.ciiva.com/5547/chpreztr-5547432.pdf?src-supplier=Mouser; ComponentLink2URL: https://datasheet.ciiva.com/14985/chpreztr-14985834.pdf?src-supplier=Digi-Key; ComponentLink2Description: https://datasheet.ciiva.com/14985/chpreztr-14985834.pdf?src-supplier=Digi-Key; Supplier Part Number 1: 652-CR0805FX-3601ELF
footprint R0805
pins: 1, 2

## CR0805-FX-5232ELF
designator R?, comment 52.3k
Res Thick Film 0805 52.3K Ohm 1% 1/8W ±100ppm/°C Molded SMD SMD Paper Tape on Plastic Reel; Manufacturer: Bourns; Manufacturer Part Number: CR0805-FX-5232ELF; Resistance: 52.3kR; Power Rating: 125mW; Voltage Rating: 150V; Supplier 1: Mouser; RoHS: Yes; Category: Chip SMD Resistors; Stock 1: 18366; Pricing 1: 1=0.10000, 10=0.02400, 50=0.02400, 100=0.01400, 1000=0.00800, 10000=0.00400 (USD); Mount: Surface Mount; Case/Package: 0805; Contact Plating: Tin; Case Code (Imperial): 0805; Case Code (Metric): 2012; Min Operating Temperature: -55°C; Max Operating Temperature: 155°C; Tolerance: 1%; Resistor Type: Thick Film; Temperature Coefficient: 100ppm/°C; Packaging: Tape and Reel; Package Quantity: 5000; Termination: SMD/SMT; Features: Moisture Resistant; Series: CR0805; Max Power Dissipation: 125mW; Number of Terminations: 2; Construction: Rectangular; Length: 2mm; Width: 1.25mm; Height: 0.5mm; Depth: 1.25mm; Thickness: 508um; Radiation Hardening: No; Military Standard: Not; RoHS Compliant: Yes; ComponentLink1URL: https://datasheet.ciiva.com/16926/chpreztr-16926583.pdf?src-supplier=Avnet+Europe; ComponentLink1Description: https://datasheet.ciiva.com/16926/chpreztr-16926583.pdf?src-supplier=Avnet+Europe; ComponentLink2URL: https://datasheet.ciiva.com/9121/chpreztr-9121194.pdf?src-supplier=Avnet; ComponentLink2Description: https://datasheet.ciiva.com/9121/chpreztr-9121194.pdf?src-supplier=Avnet; ComponentLink3URL: https://datasheet.ciiva.com/5574/chpreztr-5574347.pdf?src-supplier=Mouser; ComponentLink3Description: https://datasheet.ciiva.com/5574/chpreztr-5574347.pdf?src-supplier=Mouser; Supplier Part Number 1: 652-CR0805FX-5232ELF
footprint R0805
pins: 1, 2

## CRCW060349R9FKEAHP
designator R?, comment 49.9R
Res Thick Film 0603 49.9 Ohm 1% 0.33W(1/3W) ±100ppm/°C Pad SMD Automotive T/R; Manufacturer: Vishay Dale; Manufacturer Part Number: CRCW060349R9FKEAHP; Power Rating: 250mW; Voltage Rating: 75V; Max Power Dissipation: 333mW; Supplier 1: Mouser; RoHS: Yes; Category: Chip SMD Resistors; Stock 1: 295446; Pricing 1: 1=0.16, 10=0.14, 50=0.14, 100=0.051, 1000=0.023, 10000=0.02 (USD); Case/Package: 0603; Case Code (Imperial): 0603; Case Code (Metric): 1608; Contact Plating: Tin; Weight: 7.1E-05oz; Min Operating Temperature: -55°C; Max Operating Temperature: 155°C; Resistance: 49.9R; Packaging: Tape and Reel; Termination: SMD/SMT; Temperature Coefficient: 100ppm/°C; Series: CRCW-HP; Tolerance: 1%; Number of Terminations: 2; Package Quantity: 5000; Features: Automotive AEC-Q200; Technology: THICK FILM; Length: 1.6mm; Width: 0.8mm; Height: 0.45mm; Depth: 0.85mm; Ratings: AEC-Q200; Radiation Hardening: No; RoHS Compliant: Yes; Lead Free: Lead Free; ComponentLink1URL: https://datasheet.ciiva.com/48525/crcwhpe3-48525900.pdf?src-supplier=Avnet; ComponentLink1Description: https://datasheet.ciiva.com/48525/crcwhpe3-48525900.pdf?src-supplier=Avnet; ComponentLink2URL: https://datasheet.ciiva.com/5547/crcwhpe3-46056-5547183.pdf?src-supplier=Mouser; ComponentLink2Description: https://datasheet.ciiva.com/5547/crcwhpe3-46056-5547183.pdf?src-supplier=Mouser; ComponentLink3URL: https://datasheet.ciiva.com/9003/crcwhpe3-9003461.pdf?src-supplier=Avnet; ComponentLink3Description: https://datasheet.ciiva.com/9003/crcwhpe3-9003461.pdf?src-supplier=Avnet; ComponentLink4URL: https://datasheet.ciiva.com/2578/crcwhpe3-2578507.pdf?src-supplier=Digi-Key; ComponentLink4Description: https://datasheet.ciiva.com/2578/crcwhpe3-2578507.pdf?src-supplier=Digi-Key; ComponentLink5URL: https://datasheet.ciiva.com/2578/crcwhpe3-2578508.pdf?src-supplier=Digi-Key; ComponentLink5Description: https://datasheet.ciiva.com/2578/crcwhpe3-2578508.pdf?src-supplier=Digi-Key; ComponentLink6URL: https://datasheet.ciiva.com/2578/crcwhpe3-2578506.pdf?src-supplier=Digi-Key; ComponentLink6Description: https://datasheet.ciiva.com/2578/crcwhpe3-2578506.pdf?src-supplier=Digi-Key; Supplier Part Number 1: 71-CRCW060349R9FKEAH
footprint R0603
pins: 1, 2

## EDH106M016A9BAA
designator C?, comment 10u / 16V
Cap Aluminum 10uF 16V 20% (4 X 5.4mm) Cylindrical 28mA 2000hr 105°C T/R; Manufacturer: KEMET; Manufacturer Part Number: EDH106M016A9BAA; Supplier 1: Mouser; RoHS: Yes; Category: Aluminum Electrolytic Capacitors; Stock 1: 3957; Pricing 1: 1=0.26000, 10=0.10900, 50=0.10900, 100=0.08200, 1000=0.05600, 10000=0.04300 (USD); Case/Package: Aluminum; RoHS Compliant: Yes; ComponentLink1URL: http://components.arrow.com/part/dataview/0323_02037209?src-supplier=Arrow+Europe; ComponentLink1Description: http://components.arrow.com/part/dataview/0323_02037209?src-supplier=Arrow+Europe; Supplier Part Number 1: 80-EDH106M016A9BAA
footprint C_ELEC_SMD_4X5.4MM
pins: 1, 2

## ERJ-3EKF2000V
designator R?, comment 200R
RES SMD 200 OHM 1% 1/10W 0603; Manufacturer: Panasonic; Manufacturer Part Number: ERJ-3EKF2000V; Voltage Rating: 75V; Voltage Rating (DC): 50V; Temperature Coefficient: 100ppm/°C; Power Rating: 100mW; Supplier 1: Mouser; RoHS: Yes; Category: Chip SMD Resistors; Stock 1: 1081429; Pricing 1: 1=0.1, 10=0.049, 50=0.049, 100=0.02, 1000=0.009, 10000=0.005 (USD); Mount: Surface Mount; Case/Package: 0603; Case Code (Metric): 1608; Case Code (Imperial): 0603; Contact Plating: Tin; Min Operating Temperature: -55°C; Max Operating Temperature: 155°C; Packaging: Tape and Reel; Package Quantity: 1; Termination: SMD/SMT; Series: ERJ; Construction: Rectangular; Tolerance: 1%; Resistance: 200R; Resistor Type: Thick Film; Number of Terminations: 2; Max Power Dissipation: 100mW; Features: Automotive AEC-Q200; Resistance Tolerance: 1%; Technology: THICK FILM; Working Voltage: 75V; Length: 1.6mm; Width: 0.8mm; Height: 0.022inch; Depth: 0.8mm; Radiation Hardening: No; Reach SVHC Compliant: No; RoHS Compliant: Yes; Lead Free: Lead Free; Military Standard: Not; Supplier Part Number 1: 667-ERJ-3EKF2000V
footprint R0603
pins: 1, 2

## ERJ-6DQFR27V
designator R?, comment 270m / 0.5W
RES SMD 270 MOHM 1% 1/2W 0805; Manufacturer: Panasonic; Manufacturer Part Number: ERJ-6DQFR27V; Resistance: 270mR; Max Power Dissipation: 500mW; Temperature Coefficient: 100ppm/°C; Supplier 1: Mouser; RoHS: Yes; Category: Chip SMD Resistors; Stock 1: 1017; Pricing 1: 1=0.38000, 10=0.16900, 50=0.16900, 100=0.09600, 1000=0.05200, 10000=0.03700 (USD); Case/Package: 0805; Case Code (Metric): 2012; Case Code (Imperial): 0805; Min Operating Temperature: -55°C; Max Operating Temperature: 155°C; Packaging: Tape and Reel; Resistor Type: Thick Film; Number of Terminations: 2; Tolerance: 1%; Features: Automotive AEC-Q200; Length: 0.079inch; Width: 0.049inch; Height: 0.028inch; ComponentLink1URL: https://industrial.panasonic.com/cdbs/www-data/pdf/RDN0000/AOA0000C313.pdf?src-supplier=Digi-Key; ComponentLink1Description: https://industrial.panasonic.com/cdbs/www-data/pdf/RDN0000/AOA0000C313.pdf?src-supplier=Digi-Key; Supplier Part Number 1: 667-ERJ-6DQFR27V
footprint R0805
pins: 1, 2

## ERJ-P06F49R9V
designator R?, comment 49.9R
Thick Film Resistors - SMD 0805 49.9ohms 0.5W 1% AEC-Q200; Manufacturer: Panasonic; Manufacturer Part Number: ERJ-P06F49R9V; Power Rating: 500mW; Voltage Rating: 150V; Temperature Coefficient: 100ppm/°C; Voltage Rating (DC): 400V; Supplier 1: Mouser; RoHS: Yes; Category: Chip SMD Resistors; Stock 1: 6021; Pricing 1: 1=0.15000, 10=0.08600, 50=0.07100, 100=0.04800, 1000=0.02200, 10000=0.02100 (USD); Mount: Surface Mount; Case/Package: 0805; Case Code (Imperial): 0805; Case Code (Metric): 2012; Min Operating Temperature: -55°C; Max Operating Temperature: 155°C; Resistance: 49.9R; Tolerance: 1%; Packaging: Tape and Reel; Package Quantity: 5000; Resistor Type: Thick Film; Termination: Flat; Length: 2mm; Width: 1.2mm; Height: 0.6mm; Depth: 1.25mm; REACH SVHC: No SVHC; RoHS Compliant: Yes; ComponentLink1URL: https://datasheet.ciiva.com/22743/1801181-22743719.pdf?src-supplier=Farnell; ComponentLink1Description: https://datasheet.ciiva.com/22743/1801181-22743719.pdf?src-supplier=Farnell; ComponentLink2URL: https://datasheet.ciiva.com/46382/1801181-46382889.pdf?src-supplier=Element14; ComponentLink2Description: https://datasheet.ciiva.com/46382/1801181-46382889.pdf?src-supplier=Element14; ComponentLink3URL: https://datasheet.ciiva.com/24036/aoa0000ce4-64075-24036238.pdf?src-supplier=Mouser; ComponentLink3Description: https://datasheet.ciiva.com/24036/aoa0000ce4-64075-24036238.pdf?src-supplier=Mouser; ComponentLink4URL: https://datasheet.ciiva.com/22672/1801181-22672941.pdf?src-supplier=Element14; ComponentLink4Description: https://datasheet.ciiva.com/22672/1801181-22672941.pdf?src-supplier=Element14; Supplier Part Number 1: 667-ERJ-P06F49R9V
footprint R0805
pins: 1, 2

## FT2232HL-REEL
designator U?
Integrated Circuit; Manufacturer: FTDI Chip; Datasheet Link: https://componentsearchengine.com//FT2232HL-REEL.pdf; Height: 1.6mm; Mouser2 Part Number: 895-FT2232HL; Mouser2 Price/Stock: https://www.mouser.com/Search/Refine.aspx?Keyword=895-FT2232HL; Manufacturer Part Number: FT2232HL-REEL
footprint QFP50P1200X1200X160-64N
pins: 1 GND_1, 2 OSCI, 3 OSCO, 4 VPHY, 5 GND_2, 6 REF, 7 DM, 8 DP, 9 VPLL, 10 AGND, 11 GND_3, 12 VCORE_1, 13 TEST, 14 ~{RESET}, 15 GND_4, 16 ADBUS0, 17 ADBUS1, 18 ADBUS2, 19 ADBUS3, 20 VCCIO_1, 21 ADBUS4, 22 ADBUS5, 23 ADBUS6, 24 ADBUS7, 25 GND_5, 26 ACBUS0, 27 ACBUS1, 28 ACBUS2, 29 ACBUS3, 30 ACBUS4, 31 VCCIO_2, 32 ACBUS5, 33 ACBUS6, 34 ACBUS7, 35 GND_6, 36 ~{SUSPEND}, 37 VCORE_2, 38 BDBUS0, 39 BDBUS1, 40 BDBUS2, 41 BDBUS3, 42 VCCIO_3, 43 BDBUS4, 44 BDBUS5, 45 BDBUS6, 46 BDBUS7, 47 GND_7, 48 BCBUS0, 49 VREGOUT, 50 VREGIN, 51 GND_8, 52 BCBUS1, 53 BCBUS2, 54 BCBUS3, 55 BCBUS4, 56 VCCIO_4, 57 BCBUS5, 58 BCBUS6, 59 BCBUS7, 60 ~{PWREN}, 61 EEDATA, 62 EECLK, 63 EECS, 64 VCORE_3

## G800W302018EU
designator J?, comment HDR MALE 1x6 2.54MM
Manufacturer: Amphenol; Manufacturer Part Number: G800W302018EU; Supplier 1: Mouser; RoHS: Yes; Stock 1: 12771; Pricing 1: 1=0.15000, 10=0.07700, 50=0.07700, 100=0.07400, 1000=0.06500, 10000=0.05300 (USD); RoHS Compliant: Yes; Supplier Part Number 1: 523-G800W302018EU
footprint HDR_MALE_1X6_2.54MM
pins: 1, 2, 3, 4, 5, 6

## G800W305018EU
designator J?, comment HDR 1x3
HDR MALE 1x3 2.54MM; Manufacturer: Amphenol; Manufacturer Part Number: G800W305018EU; Supplier 1: Mouser; RoHS: Yes; Stock 1: 5972; Pricing 1: 1=0.10000, 10=0.04000, 50=0.04000, 100=0.03800, 1000=0.03200, 10000=0.02700 (USD); Supplier Part Number 1: 523-G800W305018EU
footprint HDR_Male_1x3_2.54mm
pins: 1, 2, 3

## GRM21BR61E106KA73K
designator C?, comment 10u / 25V
CAP CER 10UF 25V X5R 0805; Manufacturer: Murata; Manufacturer Part Number: GRM21BR61E106KA73K; Tolerance: 10%; Supplier 1: Mouser; RoHS: Yes; Category: Ceramic Capacitors; Stock 1: 5264; Pricing 1: 1=0.23000, 10=0.09400, 50=0.09400, 100=0.08000, 1000=0.04900, 10000=0.03900 (USD); Mount: Surface Mount; Case/Package: 0805; Weight: 0.000335oz; Min Operating Temperature: -55°C; Max Operating Temperature: 85°C; Packaging: Tape and Reel; Capacitance: 10uF; Voltage Rating: 25V; Package Quantity: 10000; Dielectric: X5R; Voltage Rating (DC): 25V; Length: 0.079inch; Width: 0.049inch; Thickness: 0.055inch; RoHS Compliant: Yes; ComponentLink1URL: http://www.mouser.com/ds/2/281/c02e-2905.pdf?src-supplier=Mouser; ComponentLink1Description: http://www.mouser.com/ds/2/281/c02e-2905.pdf?src-supplier=Mouser; ComponentLink2URL: http://search.murata.co.jp/Ceramy/image/img/A01X/G101/ENG/GRM21BR61E106KA73-01.pdf?src-supplier=Digi-Key; ComponentLink2Description: http://search.murata.co.jp/Ceramy/image/img/A01X/G101/ENG/GRM21BR61E106KA73-01.pdf?src-supplier=Digi-Key; ComponentLink3URL: https://search.murata.co.jp/Ceramy/image/img/A01X/G101/ENG/GRM21BR61E106KA73-01.pdf?src-supplier=Digi-Key; ComponentLink3Description: https://search.murata.co.jp/Ceramy/image/img/A01X/G101/ENG/GRM21BR61E106KA73-01.pdf?src-supplier=Digi-Key; Supplier Part Number 1: 81-GRM21BR61E106KA3K
footprint C0805
pins: 1, 2

## GRM21BR71A475ME51L
designator C?, comment 4.7u / 10V
CAP CER 4.7UF 10V X7R 0805; Manufacturer: Murata; Manufacturer Part Number: GRM21BR71A475ME51L; Tolerance: 20%; Supplier 1: Mouser; RoHS: Yes; Category: Ceramic Capacitors; Stock 1: 17623; Pricing 1: 1=0.17000, 10=0.12000, 50=0.12000, 100=0.06500, 1000=0.03900, 10000=0.02800 (USD); Case/Package: 0805; Voltage Rating (DC): 10V; Dielectric: X7R; Capacitance: 4.7uF; Length: 2mm; Width: 1.25mm; Thickness: 1.25mm; RoHS Compliant: Yes; ComponentLink1URL: https://search.murata.co.jp/Ceramy/image/img/A01X/G101/ENG/GRM21BR71A475ME51-01.pdf?src-supplier=Digi-Key; ComponentLink1Description: https://search.murata.co.jp/Ceramy/image/img/A01X/G101/ENG/GRM21BR71A475ME51-01.pdf?src-supplier=Digi-Key; Supplier Part Number 1: 81-GRM21BR71A475ME1L
footprint C0805
pins: 1, 2

## GRM2165C1H361JA01D
designator C?, comment 360p
Multilayer Ceramic Capacitors MLCC - SMD/SMT 0805 360pF 50volts C0G 5%; Manufacturer: Murata; Manufacturer Part Number: GRM2165C1H361JA01D; Voltage Rating: 50V; Supplier 1: Mouser; RoHS: Yes; Category: Ceramic Capacitors; Stock 1: 3000; Pricing 1: 1=0.19000, 10=0.13800, 50=0.13800, 100=0.06500, 1000=0.03700, 10000=0.02900 (USD); Mount: Surface Mount; Case/Package: 0805; Case Code (Imperial): 0805; Case Code (Metric): 2012; Min Operating Temperature: -55°C; Max Operating Temperature: 125°C; Capacitance: 360pF; Voltage Rating (DC): 50V; Tolerance: 5%; Packaging: Tape and Reel; Package Quantity: 4000; Dielectric: C0G; Termination: SMD/SMT; Series: GRM; Length: 0.079inch; Width: 0.049inch; Height: 0.6mm; Thickness: 0.028inch; RoHS Compliant: Yes; ComponentLink1URL: https://datasheet.ciiva.com/5452/product-5452101.pdf?src-supplier=Mouser; ComponentLink1Description: https://datasheet.ciiva.com/5452/product-5452101.pdf?src-supplier=Mouser; Supplier Part Number 1: 81-GRM215C1H361JA01D
footprint C0805
pins: 1, 2

## IN-S63AT5A
designator LED?, comment Amber
LED Uni-Color Amber 609nm Automotive 2-Pin Chip 0603(1608Metric) T/R; Manufacturer: Inolux; Manufacturer Part Number: IN-S63AT5A; Color: Orange; Lens Color: Clear; Lens Style: Flat; Luminous Intensity: 45mcd; Forward Voltage: 1.9V; Test Current: 5mA; Viewing Angle: 120°; Dominant Wavelength: 605nm; Lens Size: 0.8mm; Supplier 1: Mouser; RoHS: No; Category: LEDs; Stock 1: 8000; Pricing 1: 1=0.34000, 10=0.18900, 50=0.18900, 100=0.07600, 1000=0.06300, 10000=0.04000 (USD); Mount: Surface Mount; Case/Package: 0603; Case Code (Imperial): 0603; Case Code (Metric): 1608; Packaging: Tape and Reel; Lens Transparency: Clear; Length: 1.6mm; Width: 0.8mm; Height: 0.4mm; ComponentLink1URL: http://www.inolux-corp.com/datasheet/SMDLED/Mono%20Color%20Top%20View/IN-S63AT%20Series_V1.1.pdf?src-supplier=Digi-Key; ComponentLink1Description: http://www.inolux-corp.com/datasheet/SMDLED/Mono%20Color%20Top%20View/IN-S63AT%20Series_V1.1.pdf?src-supplier=Digi-Key; Supplier Part Number 1: 743-IN-S63AT5A
footprint LED0603
pins: 1 Cathode, 2 Anode

## KLDX-0202-BC
designator J?
Conn Power PIN 2 POS Solder RA Thru-Hole 3 Terminal 1 Port; Manufacturer: Kycon; Number of Contacts: 2; Gender: Female; Current Rating: 3.5A; Voltage Rating: 24V; Insulation Resistance: 100MR; Supplier 1: Mouser; Manufacturer Part Number: KLDX-0202-BC; RoHS: Yes; Category: Connectors; Stock 1: 4244; Pricing 1: 1=0.53000, 10=0.40100, 50=0.40100, 100=0.35100, 1000=0.27600, 10000=0.22200 (USD); Mount: Through Hole; Color: Black; Contact Material: Brass; Contact Plating: Tin; Housing Material: PBT; Min Operating Temperature: -25°C; Max Operating Temperature: 85°C; Package Quantity: 500; Packaging: Bag; Termination: Solder; Orientation: Right Angle; Series: KLDX; Contact Gender: Female; Connector Type: Power; Voltage Rating (DC): 24V; Radiation Hardening: No; RoHS Compliant: Yes; Flammability Rating: UL94 V-0; ComponentLink1URL: https://datasheet.ciiva.com/4561/kldx-0202-ac20-20bc-182163-4561492.pdf?src-supplier=Mouser; ComponentLink1Description: https://datasheet.ciiva.com/4561/kldx-0202-ac20-20bc-182163-4561492.pdf?src-supplier=Mouser; Supplier Part Number 1: 806-KLDX-0202-BC
footprint KLDX-0202-BC
pins: 1, 2, 3